# EAGLE library part BQ2947 (library components)
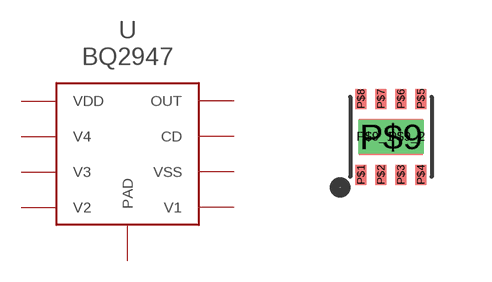
[diagram p0: symbol with the pads of WSON8; footprint WSON8]

Designator prefix U

## BQ2947  [WSON8]
P$1  VDD
P$2  V4
P$3  V3
P$4  V2
P$5  V1
P$6  VSS
P$7  CD
P$8  OUT
P$9  PAD
P$9_1  PAD
P$9_2  PAD

## Footprint WSON8 (pad centres in mm)
smd 0.28 x 0.5: P$1 -0.75,-0.95; P$2 -0.25,-0.95; P$3 0.25,-0.95; P$4 0.75,-0.95; P$5 0.75,0.95; P$6 0.25,0.95; P$7 -0.25,0.95; P$8 -0.75,0.95
smd 1.6 x 0.9: P$9 0,0
drill 0.33 pad 0.508 square: P$9_1 -0.4,0; P$9_2 0.4,0